# Altium schematic symbol library parts.SCHLIB: 33 symbols
Pins are listed as number, name and electrical type; pins without a type are passive.

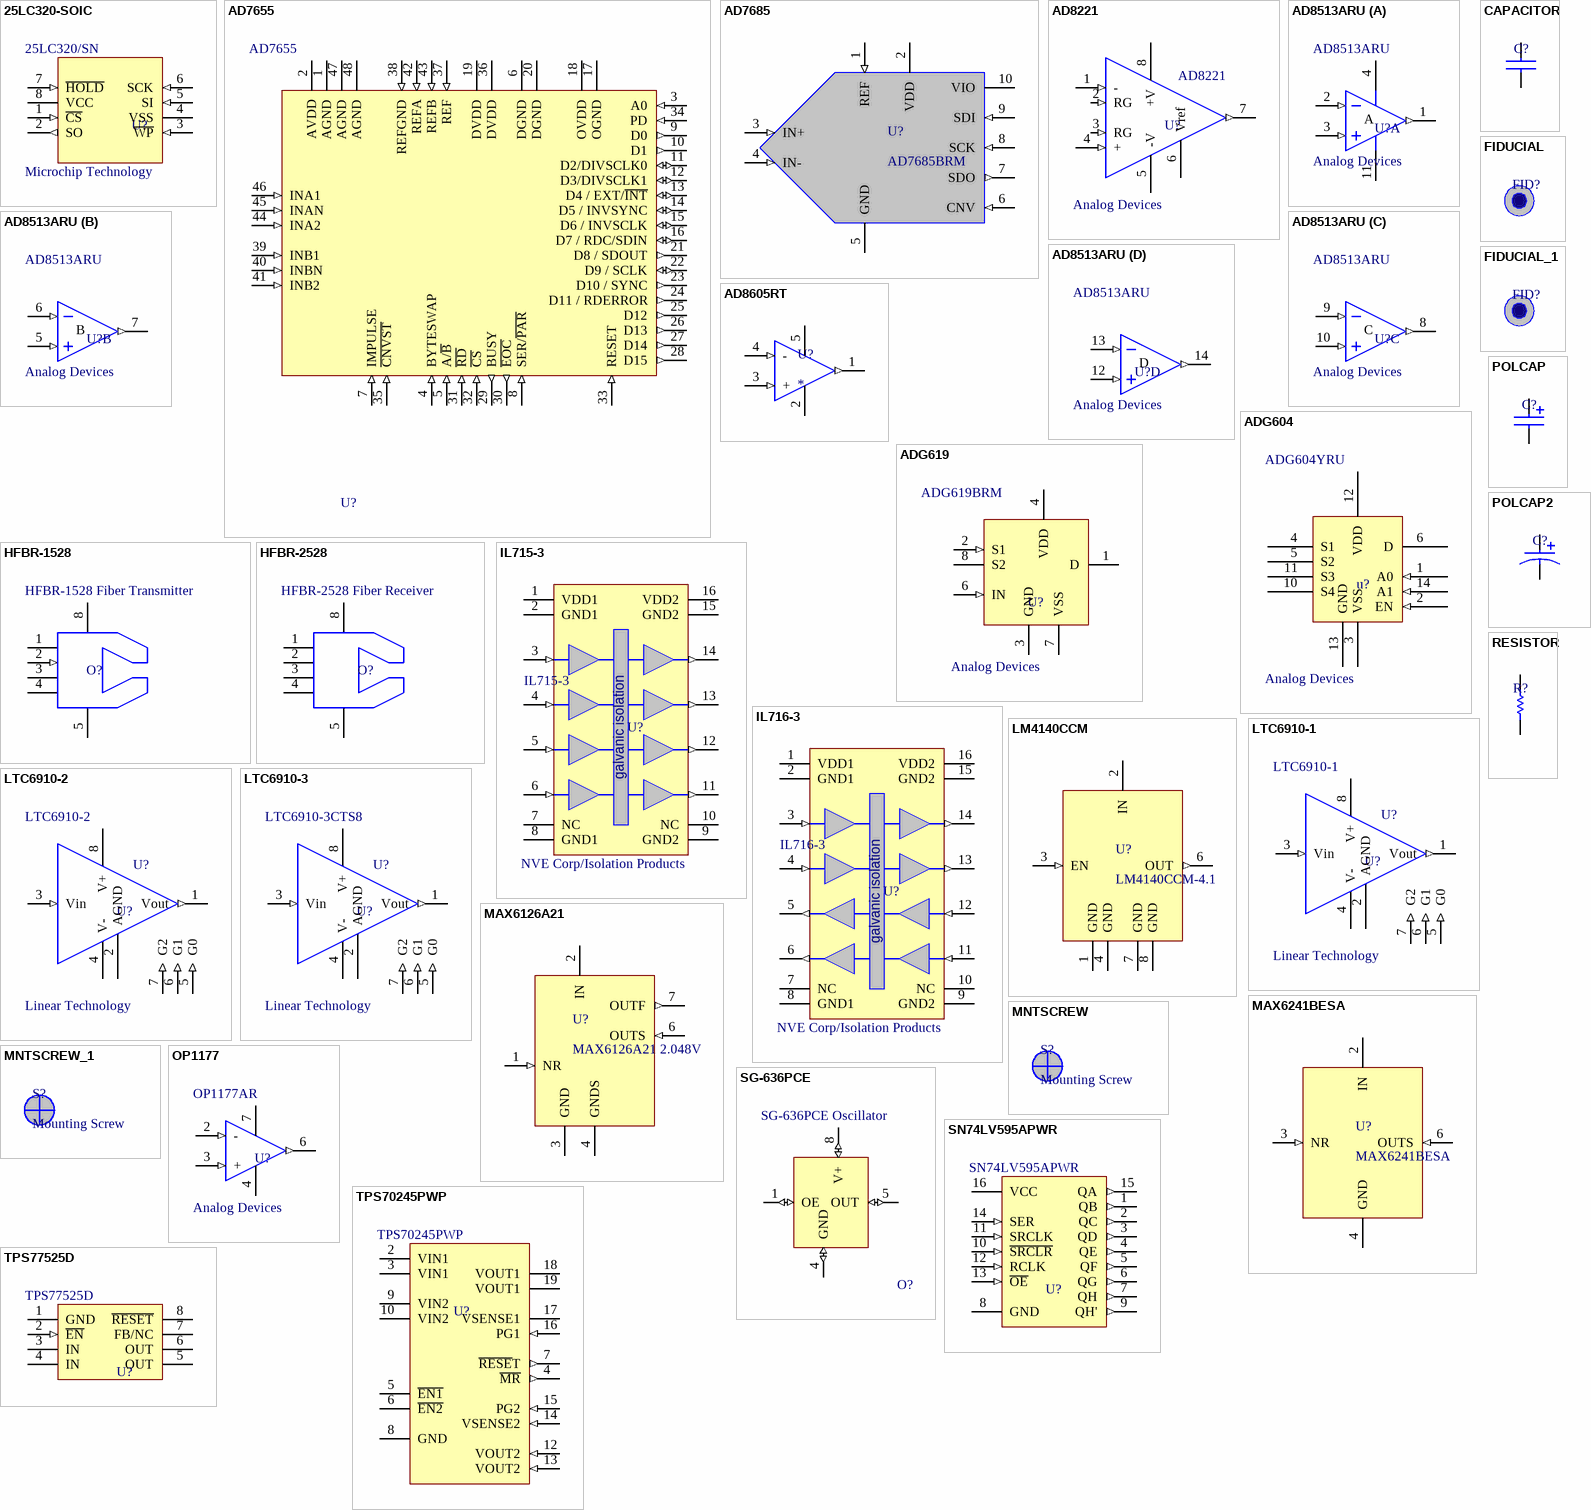
[diagram p0: symbols 25LC320-SOIC to TPS77525D]

## 25LC320-SOIC
designator U?, comment 25LC320/SN  Vendor: Microchip Technology
32k SPI Bus Serial EEPROM
footprint SO-G8/E2.9
pins: 1 ~{CS} (in), 2 SO (out), 3 ~{WP} (in), 4 VSS (power), 5 SI (in), 6 SCK (in), 7 ~{HOLD} (in), 8 VCC (power)

## AD7655
designator U?
4 Channel 1 MSPS 16-bit ADC; Vendor: Analog Devices
footprint F-QFP7X7-G48/X.3N
pins: 1 AGND (power), 2 AVDD (power), 3 A0 (in), 4 BYTESWAP (in), 5 A/~{B} (in), 6 DGND (power), 7 IMPULSE (in), 8 SER/~{PAR} (in), 9 D0 (out), 10 D1 (out), 11 D2/DIVSCLK0 (io), 12 D3/DIVSCLK1 (io), 13 D4 / EXT/~{INT} (io), 14 D5 / INVSYNC (io), 15 D6 / INVSCLK (io), 16 D7 / RDC/SDIN (io), 17 OGND (power), 18 OVDD (power), 19 DVDD (power), 20 DGND (power), 21 D8 / SDOUT (out), 22 D9 / SCLK (io), 23 D10 / SYNC (out), 24 D11 / RDERROR (out), 25 D12 (out), 26 D13 (out), 27 D14 (out), 28 D15 (out), 29 BUSY (out), 30 ~{EOC} (out), 31 ~{RD} (in), 32 ~{CS} (in), 33 RESET (in), 34 PD (in), 35 ~{CNVST} (in), 36 DVDD (power), 37 REF (in), 38 REFGND (in), 39 INB1 (in), 40 INBN (in), 41 INB2 (in), 42 REFA (in), 43 REFB (in), 44 INA2 (in), 45 INAN (in), 46 INA1 (in), 47 AGND (power), 48 AGND (power)

## AD7685
designator U?, comment AD7685BRM
AD 16-bit 250 kSPS ADC; Vendor: Analog Devices
footprint AD RM-10 (Shrink Small Outline; 10 Leads; Body Width 3 mm; Pitch 0.5 mm)
pins: 1 REF (in), 2 VDD (power), 3 IN+ (in), 4 IN- (in), 5 GND (power), 6 CNV (in), 7 SDO (out), 8 SCK (in), 9 SDI (in), 10 VIO (power)

## AD8221
designator U?  Vendor: Analog Devices
AD8221 Precision Instrumentation Amplifier
footprint SO-G8
pins: 1 - (in), 2 RG (in), 3 RG (in), 4 + (in), 5 -V (power), 6 Vref, 7 Vout (out), 8 +V (power)

## AD8513ARU
designator U?  Vendor: Analog Devices
low-noise JFET quad OA
footprint TSSO5X6-G14/X.3
footprint SO-G14
part A pins: 1 OUTA (out), 2 IN-A (in), 3 IN+A (in), 4 V+ (power), 11 V- (power)
part B pins: 5 IN+B (in), 6 IN-B (in), 7 OUTB (out)
part C pins: 8 OUTC (out), 9 IN-C (in), 10 IN+C (in)
part D pins: 12 IN+D (in), 13 IN-D (in), 14 OUTD (out)
part A text: A
part B text: B
part C text: C
part D text: D

## AD8605RT
designator U?
Analog Devices Precision Low Noise CMOS Rail-to-Rail Input/Output Operational Amplifier
footprint SO-G5/P.95 (SOT-23/SC-74A; 5 Leads; Body 3.1 x 3 mm, inc. leads (LxW max))
pins: 1 Out (out), 2 -Vs (power), 3 + (in), 4 - (in), 5 +Vs (power)

## ADG604
designator u?, comment ADG604YRU  Vendor: Analog Devices
1 pC Charge Injection 100pA leakage CMOS 4-channel mux
footprint SSO-G14/X.4
pins: 1 A0 (in), 2 EN (in), 3 VSS (power), 4 S1, 5 S2, 6 D, 10 S4, 11 S3, 12 VDD (power), 13 GND (power), 14 A1 (in)

## ADG619
designator U?, comment ADG619BRM  Vendors: Analog Devices
Low RON SPDT Switch (s2 normally on)
footprint MSOP8
pins: 1 D, 2 S1 (in), 3 GND (power), 4 VDD (power), 6 IN (in), 7 VSS (power), 8 S2

## CAPACITOR
designator C?
Standard Capacitor; Type: X7R
footprint 0603 (Standard-sized 0603 Passive)
pins: 1, 2

## FIDUCIAL
designator FID?  (value not drawn)
Fiducial
footprint FIDUCIAL (Fiducial footprint as recommended by PCBpro)

## FIDUCIAL_1
designator FID?  (value not drawn)
Fiducial
footprint FIDUCIAL (Fiducial footprint as recommended by PCBpro)

## HFBR-1528
designator O?, comment HFBR-1528 Fiber Transmitter
Low-cost fiber transmitter; Vendor: Agilent
footprint HPVL
pins: 1 (power), 2 (in), 3 (power), 4 (power), 5 (power), 8 (power)

## HFBR-2528
designator O?, comment HFBR-2528 Fiber Receiver
Low-cost fiber receiver; Vendor: Agilent
footprint HPVL
pins: 1 (power), 2 (power), 3 (power), 4 (power), 5 (power), 8 (power)

## IL715-3
designator U?  Vendor: NVE Corp/Isolation Products
High speed digital coupler
footprint SO-G16/D10
pins: 1 VDD1 (power), 2 GND1 (power), 3 IN1 (in), 4 IN2 (in), 5 IN3 (in), 6 IN4 (in), 7 NC, 8 GND1 (power), 9 GND2 (power), 10 NC, 11 OUT4 (out), 12 OUT3 (out), 13 OUT2 (out), 14 OUT1 (out), 15 GND2 (power), 16 VDD2 (power)
text: galvanic isolation

## IL716-3
designator U?  Vendor: NVE Corp/Isolation Products
High speed digital coupler
footprint SO-G16/D10
pins: 1 VDD1 (power), 2 GND1 (power), 3 IN1 (in), 4 IN2 (in), 5 OUT3 (out), 6 OUT4 (out), 7 NC, 8 GND1 (power), 9 GND2 (power), 10 NC, 11 IN4 (in), 12 IN3 (in), 13 OUT2 (out), 14 OUT1 (out), 15 GND2 (power), 16 VDD2 (power)
text: galvanic isolation

## LM4140CCM
designator U?, comment LM4140CCM-4.1
National 4.096V Low-noise Voltage Reference
footprint SO-G8/D5 (Small Outline; 8 Leads; Body Width 3.9 mm; Pitch 1.27 mm)
pins: 1 GND (power), 2 IN (power), 3 EN (in), 4 GND (power), 6 OUT (out), 7 GND (power), 8 GND (power)

## LTC6910-1
designator U?  Vendor: Linear Technology
LTI Digitally Controlled Programmabe Gain Amp
footprint TSOT-23-8
pins: 1 Vout (out), 2 AGND (power), 3 Vin (in), 4 V- (power), 5 G0 (in), 6 G1 (in), 7 G2 (in), 8 V+ (power)

## LTC6910-2
designator U?  Vendor: Linear Technology
LTI Digitally Controlled Programmabe Gain Amp
footprint TSOT-23-8
pins: 1 Vout (out), 2 AGND (power), 3 Vin (in), 4 V- (power), 5 G0 (in), 6 G1 (in), 7 G2 (in), 8 V+ (power)

## LTC6910-3
designator U?, comment LTC6910-3CTS8  Vendor: Linear Technology
LTI Digitally Controlled Programmabe Gain Amp
footprint TSOT-23-8
pins: 1 Vout (out), 2 AGND (power), 3 Vin (in), 4 V- (power), 5 G0 (in), 6 G1 (in), 7 G2 (in), 8 V+ (power)

## MAX6126A21
designator U?, comment MAX6126A21 2.048V
Ultra-High-Precision, Ultra-Low-Noise, Series Voltage Reference; Vendor: Maxim Integrated Products
footprint TSSO3x5-G8/X.35 (Shrink Small Outline; 8 Leads; Body Width 3 mm; Pitch 0.65 mm)
pins: 1 NR (in), 2 IN (power), 3 GND (power), 4 GNDS (power), 6 OUTS (in), 7 OUTF (out)

## MAX6241BESA
designator U?
Maxim 4.096V Low-noise Voltage Reference
footprint SO-G8/D5 (Small Outline; 8 Leads; Body Width 3.9 mm; Pitch 1.27 mm)
pins: 2 IN (power), 3 NR (in), 4 GND (power), 6 OUTS (in)

## MNTSCREW
designator S?, comment Mounting Screw
footprint SCREW6-32 (6-32 screw)

## MNTSCREW_1
designator S?, comment Mounting Screw
footprint SCREW6-32 (6-32 screw)

## OP1177
designator U?, comment OP1177AR  Vendor: Analog Devices
Precision Low Noise, Low Input Bias Current Operational Amplifier
footprint SO-G8/X.6
pins: 2 - (in), 3 + (in), 4 -Vs (power), 6 Out (out), 7 +Vs (power)

## POLCAP
designator C?
Standard Capacitor; Type: X7R
footprint 3216 (Standard-Sized 3216 Polarized Leadless Cap)
pins: 1, 2

## POLCAP2
designator C?
Standard Capacitor; Type: Tantalum
footprint 3216 (Standard-Sized 3216 Polarized Leadless Cap)
pins: 1, 2

## RESISTOR
designator R?
Standard Passive Resistor
footprint 0603 (Standard-sized 0603 Passive)
pins: 1, 2

## SG-636PCE
designator O?, comment SG-636PCE Oscillator
Epson CMOS/TTL Oscillator; Vendor: Epson Electronics America Inc
footprint SG-531P
pins: 1 OE (io), 4 GND (io), 5 OUT (io), 8 V+ (io)

## SN74LV595APWR
designator U?
8-bit shift register with 3-state output; Vendor: Texas Instruments
footprint SSO-G16/X.4
pins: 1 QB (out), 2 QC (out), 3 QD (out), 4 QE (out), 5 QF (out), 6 QG (out), 7 QH (out), 8 GND (power), 9 QH' (out), 10 ~{SRCLR} (in), 11 SRCLK (in), 12 RCLK (in), 13 ~{OE} (in), 14 SER (in), 15 QA (out), 16 VCC (power)

## TPS70245PWP
designator U?
TI dual-output low dropout voltage regulators; Vendor: Texas Instruments
footprint PWP PowerPad -20
pins: 2 VIN1 (power), 3 VIN1 (power), 4 ~{MR} (out), 5 ~{EN1} (power), 6 ~{EN2} (power), 7 ~{RESE}T (out), 8 GND (power), 9 VIN2 (power), 10 VIN2 (power), 12 VOUT2 (in), 13 VOUT2 (in), 14 VSENSE2 (in), 15 PG2 (in), 16 PG1 (in), 17 VSENSE1 (power), 18 VOUT1 (power), 19 VOUT1 (power), P1 (power) hidden to GND, P2 (power) hidden to GND, P3 (power) hidden to GND, P4 (power) hidden to GND, P5 (power) hidden to GND, P6 (power) hidden to GND, P7 (power) hidden to GND, P8 (power) hidden to GND, P9 (power) hidden to GND, P10 (power) hidden to GND, P11 (power) hidden to GND, P12 (power) hidden to GND, P13 (power) hidden to GND, P14 (power) hidden to GND, P15 (power) hidden to GND, P16 (power) hidden to GND, P17 (power) hidden to GND

## TPS77525D
designator U?
Fast-transient-response 500 mA low-dropout voltage regulator; Vendor: Texas Instruments
footprint SO-G8
pins: 1 GND (power), 2 ~{EN} (in), 3 IN (power), 4 IN (power), 5 OUT (power), 6 OUT (power), 7 FB/NC, 8 ~{RESET}

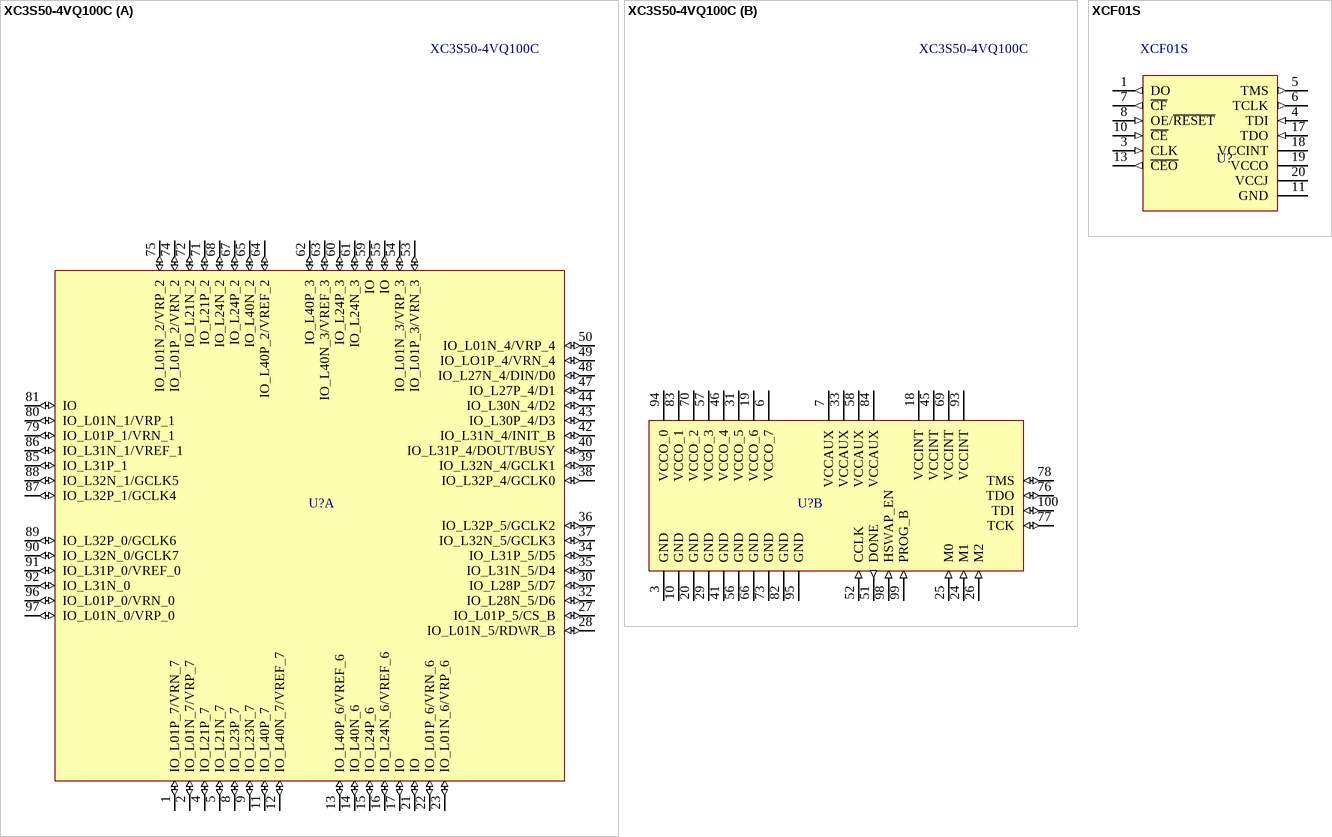
[diagram p1: symbols XC3S50-4VQ100C to XCF01S]

## XC3S50-4VQ100C
designator U?
Xilinx Spartan-3 VQ100; Vendor: Xilinx
footprint F-QFP14X14-G100/N
part A pins: 1 IO_L01P_7/VRN_7 (io), 2 IO_L01N_7/VRP_7 (io), 4 IO_L21P_7 (io), 5 IO_L21N_7 (io), 8 IO_L23P_7 (io), 9 IO_L23N_7 (io), 11 IO_L40P_7 (io), 12 IO_L40N_7/VREF_7 (io), 13 IO_L40P_6/VREF_6 (io), 14 IO_L40N_6 (io), 15 IO_L24P_6 (io), 16 IO_L24N_6/VREF_6 (io), 17 IO (io), 21 IO (io), 22 IO_L01P_6/VRN_6 (io), 23 IO_L01N_6/VRP_6 (io), 27 IO_L01P_5/CS_B (io), 28 IO_L01N_5/RDWR_B (io), 30 IO_L28P_5/D7 (io), 32 IO_L28N_5/D6 (io), 34 IO_L31P_5/D5 (io), 35 IO_L31N_5/D4 (io), 36 IO_L32P_5/GCLK2 (io), 37 IO_L32N_5/GCLK3 (io), 38 IO_L32P_4/GCLK0 (io), 39 IO_L32N_4/GCLK1 (io), 40 IO_L31P_4/DOUT/BUSY (io), 42 IO_L31N_4/INIT_B (io), 43 IO_L30P_4/D3 (io), 44 IO_L30N_4/D2 (io), 47 IO_L27P_4/D1 (io), 48 IO_L27N_4/DIN/D0 (io), 49 IO_LO1P_4/VRN_4 (io), 50 IO_L01N_4/VRP_4 (io), 53 IO_L01P_3/VRN_3 (io), 54 IO_L01N_3/VRP_3 (io), 55 IO (io), 59 IO (io), 60 IO_L24P_3 (io), 61 IO_L24N_3 (io), 62 IO_L40P_3 (io), 63 IO_L40N_3/VREF_3 (io), 64 IO_L40P_2/VREF_2 (io), 65 IO_L40N_2 (io), 67 IO_L24P_2 (io), 68 IO_L24N_2 (io), 71 IO_L21P_2 (io), 72 IO_L21N_2 (io), 74 IO_L01P_2/VRN_2 (io), 75 IO_L01N_2/VRP_2 (io), 79 IO_L01P_1/VRN_1 (io), 80 IO_L01N_1/VRP_1 (io), 81 IO (io), 85 IO_L31P_1 (io), 86 IO_L31N_1/VREF_1 (io), 87 IO_L32P_1/GCLK4 (io), 88 IO_L32N_1/GCLK5 (io), 89 IO_L32P_0/GCLK6 (io), 90 IO_L32N_0/GCLK7 (io), 91 IO_L31P_0/VREF_0 (io), 92 IO_L31N_0 (io), 96 IO_L01P_0/VRN_0 (io), 97 IO_L01N_0/VRP_0 (io)
part B pins: 3 GND (power), 6 VCCO_7 (power), 7 VCCAUX (power), 10 GND (power), 18 VCCINT (power), 19 VCCO_6 (power), 20 GND (power), 24 M1 (in), 25 M0 (in), 26 M2 (in), 29 GND (power), 31 VCCO_5 (power), 33 VCCAUX (power), 41 GND (power), 45 VCCINT (power), 46 VCCO_4 (power), 51 DONE (out), 52 CCLK (in), 56 GND (power), 57 VCCO_3 (power), 58 VCCAUX (power), 66 GND (power), 69 VCCINT (power), 70 VCCO_2 (power), 73 GND (power), 76 TDO (io), 77 TCK (io), 78 TMS (io), 82 GND (power), 83 VCCO_1 (power), 84 VCCAUX (power), 93 VCCINT (power), 94 VCCO_0 (power), 95 GND (power), 98 HSWAP_EN (in), 99 PROG_B (in), 100 TDI (io)

## XCF01S
designator U?
Xilinx Platform Flash; Vendor: Xilinx
footprint TSSO6x6-G20/X.3
pins: 1 DO (out), 3 CLK (in), 4 TDI (in), 5 TMS (out), 6 TCLK (out), 7 ~{CF} (out), 8 OE/~{RESET} (in), 10 ~{CE} (in), 11 GND (power), 13 ~{CEO} (out), 17 TDO (in), 18 VCCINT (power), 19 VCCO (power), 20 VCCJ (power)